# Altium footprint library Mypcb.PcbLib: 144 footprints (part 5 of 9)
Each footprint in its own frame and in the unit in brackets; x right, y up, seen from the top. Pads: shape width x height; smd on the part's side, far side on the other; paste and mask are expansions set on the pad; w line width, h text height; cw(c..) or ccw(c..) is an arc to the next point about the centre after c.
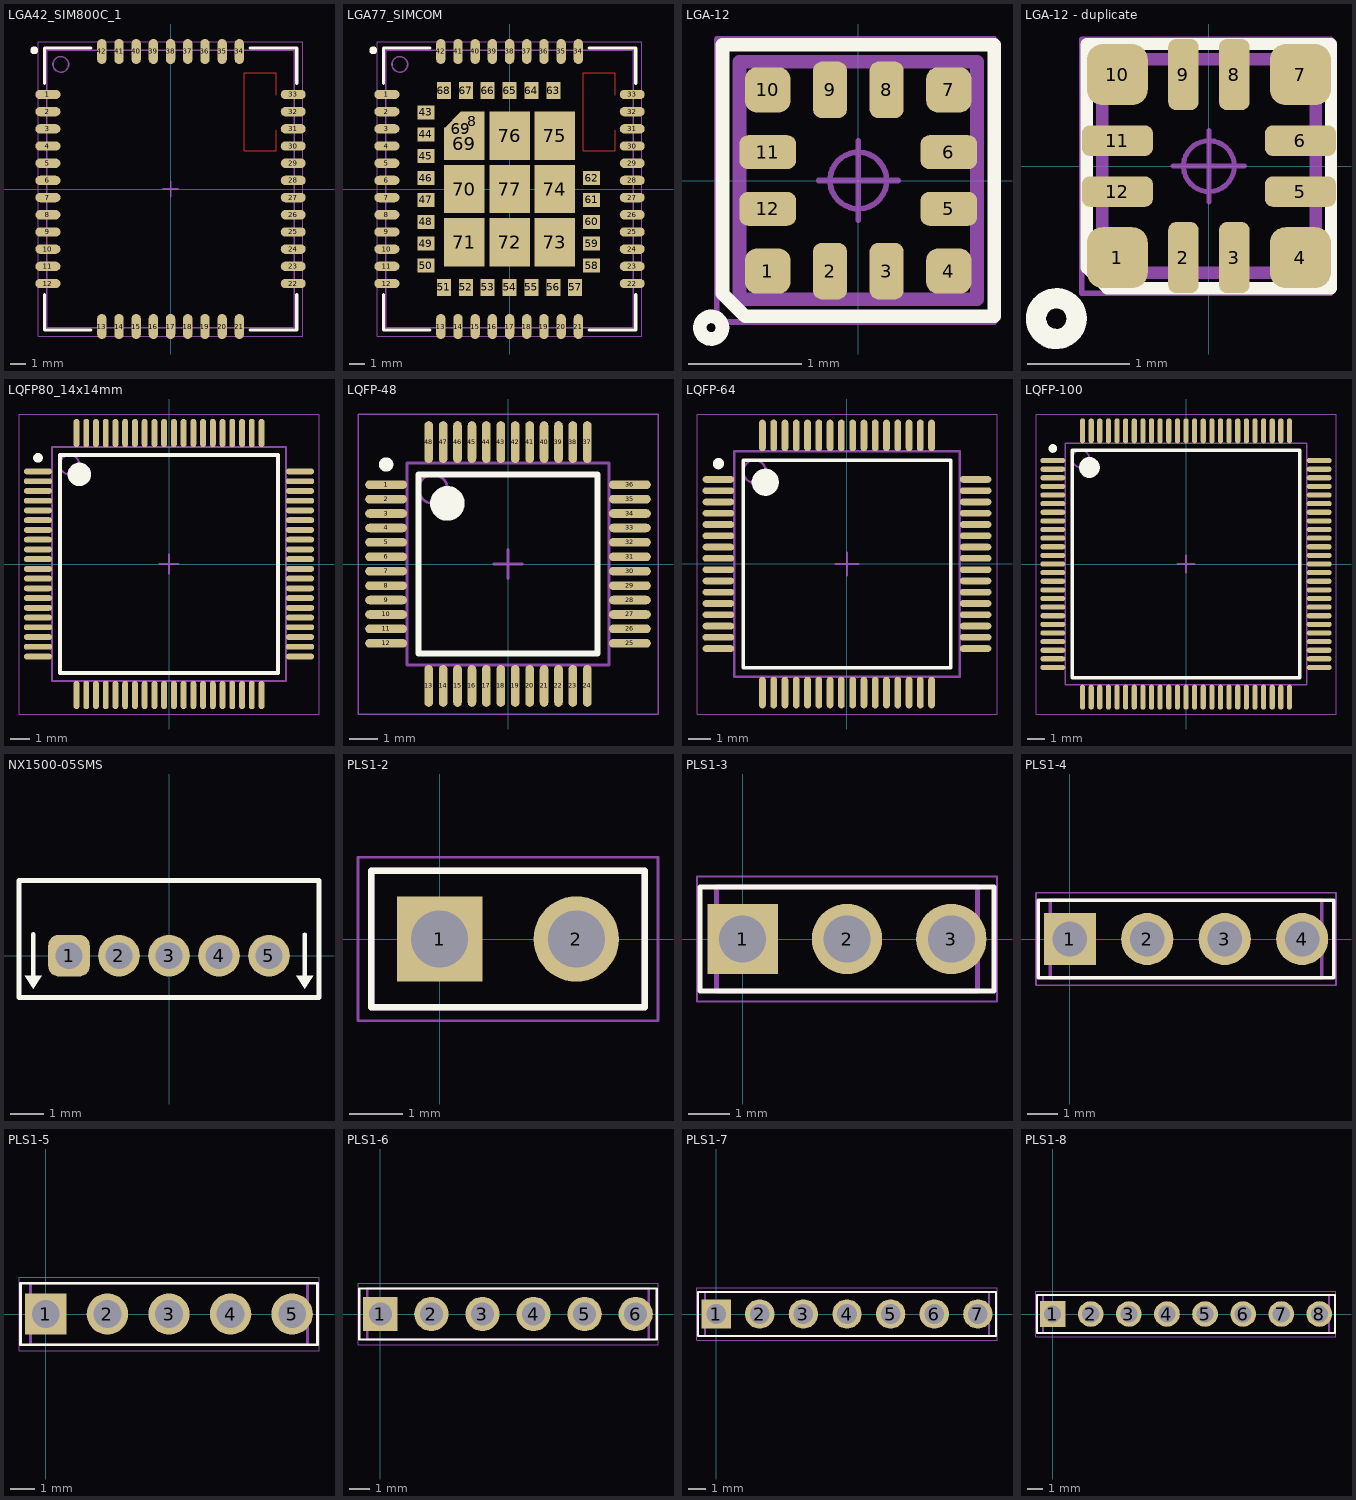
[diagram p4: the footprints below, top view; thin cyan lines are the x and y axes]

## LGA42_SIM800C_1 [mm] "SIM800C module"
height 2.5
pads (42):
  oval 1.6x0.6 smd: 1(-7.85,6.05) 2(-7.85,4.95) 3(-7.85,3.85) 4(-7.85,2.75) 5(-7.85,1.65) 6(-7.85,0.55) 7(-7.85,-0.55) 8(-7.85,-1.65) 9(-7.85,-2.75) 10(-7.85,-3.85) 11(-7.85,-4.95) 12(-7.85,-6.05) 22(7.85,-6.05) 23(7.85,-4.95) 24(7.85,-3.85) 25(7.85,-2.75) 26(7.85,-1.65) 27(7.85,-0.55) 28(7.85,0.55) 29(7.85,1.65) 30(7.85,2.75) 31(7.85,3.85) 32(7.85,4.95) 33(7.85,6.05)
  oval 0.6x1.6 smd: 13(-4.4,-8.8) 14(-3.3,-8.8) 15(-2.2,-8.8) 16(-1.1,-8.8) 17(0,-8.8) 18(1.1,-8.8) 19(2.2,-8.8) 20(3.3,-8.8) 21(4.4,-8.8) 34(4.4,8.8) 35(3.3,8.8) 36(2.2,8.8) 37(1.1,8.8) 38(0,8.8) 39(-1.1,8.8) 40(-2.2,8.8) 41(-3.3,8.8) 42(-4.4,8.8)
Top Layer:
  lines w0.05: 6.75,3.75 6.75,2.45 4.7,2.45 4.7,7.45 6.75,7.45 6.75,6
Top Overlay:
  circle w0.25: c-8.725,8.875 r0.125
  lines w0.2: -8.075,-6.75 -8.075,-9.025 -5.1,-9.025 ; -8.075,6.75 -8.075,9.025 -5.1,9.025 ; 5.1,-9.025 8.075,-9.025 8.075,-6.75 ; 5.1,9.025 8.075,9.025 8.075,6.75
Mechanical 13:
  circle w0.1: c-7.025,7.975 r0.5
  lines w0.1: -7.925,-8.875 7.925,-8.875 7.925,8.875 -7.925,8.875 -7.925,-8.875
Mechanical 15:
  lines w0.05: -8.475,-9.425 8.475,-9.425 8.475,9.425 -8.475,9.425 -8.475,-9.425
  lines w0.1: -0.5,0 0.5,0 ; 0,-0.5 0,0.5
3D body: height 2.5, standoff 0.01, extent -7.925,-8.875 7.925,8.875

## LGA77_SIMCOM [mm] "SIM868 module"
height 2.5
pads (79):
  oval 1.6x0.6 smd: 1(-7.85,6.05) 2(-7.85,4.95) 3(-7.85,3.85) 4(-7.85,2.75) 5(-7.85,1.65) 6(-7.85,0.55) 7(-7.85,-0.55) 8(-7.85,-1.65) 9(-7.85,-2.75) 10(-7.85,-3.85) 11(-7.85,-4.95) 12(-7.85,-6.05) 22(7.85,-6.05) 23(7.85,-4.95) 24(7.85,-3.85) 25(7.85,-2.75) 26(7.85,-1.65) 27(7.85,-0.55) 28(7.85,0.55) 29(7.85,1.65) 30(7.85,2.75) 31(7.85,3.85) 32(7.85,4.95) 33(7.85,6.05)
  rect 1.55x1.2 smd: 8(-2.375,4.35)
  oval 0.6x1.6 smd: 13(-4.4,-8.8) 14(-3.3,-8.8) 15(-2.2,-8.8) 16(-1.1,-8.8) 17(0,-8.8) 18(1.1,-8.8) 19(2.2,-8.8) 20(3.3,-8.8) 21(4.4,-8.8) 34(4.4,8.8) 35(3.3,8.8) 36(2.2,8.8) 37(1.1,8.8) 38(0,8.8) 39(-1.1,8.8) 40(-2.2,8.8) 41(-3.3,8.8) 42(-4.4,8.8)
  rect 1.1x0.9 smd: 43(-5.35,4.9) 44(-5.35,3.5) 45(-5.35,2.1) 46(-5.35,0.7) 47(-5.35,-0.7) 48(-5.35,-2.1) 49(-5.35,-3.5) 50(-5.35,-4.9) 58(5.25,-4.9) 59(5.25,-3.5) 60(5.25,-2.1) 61(5.25,-0.7) 62(5.25,0.7)
  rect 0.9x1.1 smd: 51(-4.2,-6.3) 52(-2.8,-6.3) 53(-1.4,-6.3) 54(0,-6.3) 55(1.4,-6.3) 56(2.8,-6.3) 57(4.2,-6.3) 63(2.8,6.3) 64(1.4,6.3) 65(0,6.3) 66(-1.4,6.3) 67(-2.8,6.3) 68(-4.2,6.3)
  rect 1.55x1.55 smd rot 45: 69(-3.12,3.87)
  rect 2.6x2.07 smd: 69(-2.9,2.885)
  rect 2.6x3.1 smd: 70(-2.9,0) 71(-2.9,-3.4) 72(0,-3.4) 73(2.9,-3.4) 74(2.9,0) 75(2.9,3.4) 76(0,3.4) 77(0,0)
Top Layer:
  lines w0.05: 6.75,3.75 6.75,2.45 4.7,2.45 4.7,7.45 6.75,7.45 6.75,6
Top Overlay:
  circle w0.25: c-8.725,8.875 r0.125
  lines w0.2: -8.075,-6.75 -8.075,-9.025 -5.1,-9.025 ; -8.075,6.75 -8.075,9.025 -5.1,9.025 ; 5.1,-9.025 8.075,-9.025 8.075,-6.75 ; 5.1,9.025 8.075,9.025 8.075,6.75
Mechanical 13:
  circle w0.1: c-7.025,7.975 r0.5
  lines w0.1: -7.925,-8.875 -7.925,8.875 7.925,8.875 7.925,-8.875 -7.925,-8.875
Mechanical 15:
  lines w0.05: -8.475,-9.425 -8.475,9.425 8.475,9.425 8.475,-9.425 -8.475,-9.425
  lines w0.1: -0.5,0 0.5,0 ; 0,-0.5 0,0.5
3D body: height 2.5, standoff 0.01, extent -7.6,-8.875 8.25,8.875

## LGA-12 [mm] "2x2 mm accelerometer"
pads (12):
  rrect51% 0.4x0.4 smd: 1(-0.8,-0.8) 4(0.8,-0.8) 7(0.8,0.8) 10(-0.8,0.8)
  rrect51% 0.3x0.5 smd: 2(-0.25,-0.8) 3(0.25,-0.8) 8(0.25,0.8) 9(-0.25,0.8)
  rrect51% 0.5x0.3 smd: 5(0.8,-0.25) 6(0.8,0.25) 11(-0.8,0.25) 12(-0.8,-0.25)
Top Overlay:
  circle w0.12: c-1.3,-1.3 r0.1
  lines w0.12: -1.2,-1 -1.2,1.2 1.2,1.2 1.2,-1.2 -1,-1.2 -1.2,-1
Mechanical 11:
  lines w0.12: -1.05,-1.05 -1.05,1.05 1.05,1.05 1.05,-1.05 -1.05,-1.05
Mechanical 12:
  lines w0.025: -1,-1 -1,1 1,1 1,-1 -1,-1 ; -0.9,-0.375 -0.75,-0.375 ccw(c-0.75,-0.25) -0.75,-0.125 -0.9,-0.125 -0.9,-0.375 ; -0.9,0.125 -0.75,0.125 ccw(c-0.75,0.25) -0.75,0.375 -0.9,0.375 -0.9,0.125 ; -0.875,-0.9 -0.875,-0.75 cw(c-0.75,-0.75) -0.625,-0.75 -0.625,-0.9 -0.875,-0.9 ; -0.875,0.75 ccw(c-0.75,0.75) -0.625,0.75 -0.625,0.9 -0.875,0.9 -0.875,0.75 ; -0.375,-0.9 -0.375,-0.75 cw(c-0.25,-0.75) -0.125,-0.75 -0.125,-0.9 -0.375,-0.9 ; -0.375,0.75 ccw(c-0.25,0.75) -0.125,0.75 -0.125,0.9 -0.375,0.9 -0.375,0.75 ; 0.125,-0.9 0.125,-0.75 cw(c0.25,-0.75) 0.375,-0.75 0.375,-0.9 0.125,-0.9 ; 0.125,0.75 ccw(c0.25,0.75) 0.375,0.75 0.375,0.9 0.125,0.9 0.125,0.75 ; 0.625,-0.9 0.625,-0.75 cw(c0.75,-0.75) 0.875,-0.75 0.875,-0.9 0.625,-0.9 ; 0.625,0.75 ccw(c0.75,0.75) 0.875,0.75 0.875,0.9 0.625,0.9 0.625,0.75 ; 0.75,-0.375 cw(c0.75,-0.25) 0.75,-0.125 0.9,-0.125 0.9,-0.375 0.75,-0.375 ; 0.75,0.125 cw(c0.75,0.25) 0.75,0.375 0.9,0.375 0.9,0.125 0.75,0.125
Mechanical 15:
  circle w0.05: c0,0 r0.25
  lines w0.05: -0.35,0 0.35,0 ; 0,-0.35 0,0.35 ; -1.25,-1.25 -1.25,1.25 1.2,1.25 1.2,-1.25 -1.25,-1.25
3D body "PQFN12P50_200X200X70L27X25.STEP": height 0.7, standoff 0, extent -1,-1 1,1

## LGA-12 - duplicate [mm] "2x2 mm accelerometer"
pads (12):
  rrect51% 0.6x0.6 smd: 1(-0.9,-0.9) 4(0.9,-0.9) 7(0.9,0.9) 10(-0.9,0.9)
  rrect51% 0.3x0.7 smd: 2(-0.25,-0.9) 3(0.25,-0.9) 8(0.25,0.9) 9(-0.25,0.9)
  rrect51% 0.7x0.3 smd: 5(0.9,-0.25) 6(0.9,0.25) 11(-0.9,0.25) 12(-0.9,-0.25)
Top Overlay:
  circle w0.2: c-1.5,-1.5 r0.2
  lines w0.12: -1.2,-1 -1.2,1.2 1.2,1.2 1.2,-1.2 -1,-1.2 -1.2,-1
Mechanical 11:
  lines w0.12: -1.05,-1.05 -1.05,1.05 1.05,1.05 1.05,-1.05 -1.05,-1.05
Mechanical 12:
  lines w0.025: -1,-1 -1,1 1,1 1,-1 -1,-1 ; -0.9,-0.375 -0.75,-0.375 ccw(c-0.75,-0.25) -0.75,-0.125 -0.9,-0.125 -0.9,-0.375 ; -0.9,0.125 -0.75,0.125 ccw(c-0.75,0.25) -0.75,0.375 -0.9,0.375 -0.9,0.125 ; -0.875,-0.9 -0.875,-0.75 cw(c-0.75,-0.75) -0.625,-0.75 -0.625,-0.9 -0.875,-0.9 ; -0.875,0.75 ccw(c-0.75,0.75) -0.625,0.75 -0.625,0.9 -0.875,0.9 -0.875,0.75 ; -0.375,-0.9 -0.375,-0.75 cw(c-0.25,-0.75) -0.125,-0.75 -0.125,-0.9 -0.375,-0.9 ; -0.375,0.75 ccw(c-0.25,0.75) -0.125,0.75 -0.125,0.9 -0.375,0.9 -0.375,0.75 ; 0.125,-0.9 0.125,-0.75 cw(c0.25,-0.75) 0.375,-0.75 0.375,-0.9 0.125,-0.9 ; 0.125,0.75 ccw(c0.25,0.75) 0.375,0.75 0.375,0.9 0.125,0.9 0.125,0.75 ; 0.625,-0.9 0.625,-0.75 cw(c0.75,-0.75) 0.875,-0.75 0.875,-0.9 0.625,-0.9 ; 0.625,0.75 ccw(c0.75,0.75) 0.875,0.75 0.875,0.9 0.625,0.9 0.625,0.75 ; 0.75,-0.375 cw(c0.75,-0.25) 0.75,-0.125 0.9,-0.125 0.9,-0.375 0.75,-0.375 ; 0.75,0.125 cw(c0.75,0.25) 0.75,0.375 0.9,0.375 0.9,0.125 0.75,0.125
Mechanical 15:
  circle w0.05: c0,0 r0.25
  lines w0.05: -0.35,0 0.35,0 ; 0,-0.35 0,0.35 ; -1.25,-1.25 -1.25,1.25 1.2,1.25 1.2,-1.25 -1.25,-1.25
3D body "PQFN12P50_200X200X70L27X25.STEP": height 0.7, standoff 0, extent -1,-1 1,1

## LQFP80_14x14mm [mm] "TSQFP, 80-Leads, Body 12,00x12,00mm, Pitch 0,50mm, IPC Medium Density"
height 1.6
pads (80):
  oval 1.45x0.3 smd: 1(-6.725,4.75) 2(-6.725,4.25) 3(-6.725,3.75) 4(-6.725,3.25) 5(-6.725,2.75) 6(-6.725,2.25) 7(-6.725,1.75) 8(-6.725,1.25) 9(-6.725,0.75) 10(-6.725,0.25) 11(-6.725,-0.25) 12(-6.725,-0.75) 13(-6.725,-1.25) 14(-6.725,-1.75) 15(-6.725,-2.25) 16(-6.725,-2.75) 17(-6.725,-3.25) 18(-6.725,-3.75) 19(-6.725,-4.25) 20(-6.725,-4.75) 41(6.725,-4.75) 42(6.725,-4.25) 43(6.725,-3.75) 44(6.725,-3.25) 45(6.725,-2.75) 46(6.725,-2.25) 47(6.725,-1.75) 48(6.725,-1.25) 49(6.725,-0.75) 50(6.725,-0.25) 51(6.725,0.25) 52(6.725,0.75) 53(6.725,1.25) 54(6.725,1.75) 55(6.725,2.25) 56(6.725,2.75) 57(6.725,3.25) 58(6.725,3.75) 59(6.725,4.25) 60(6.725,4.75)
  oval 0.3x1.45 smd: 21(-4.75,-6.725) 22(-4.25,-6.725) 23(-3.75,-6.725) 24(-3.25,-6.725) 25(-2.75,-6.725) 26(-2.25,-6.725) 27(-1.75,-6.725) 28(-1.25,-6.725) 29(-0.75,-6.725) 30(-0.25,-6.725) 31(0.25,-6.725) 32(0.75,-6.725) 33(1.25,-6.725) 34(1.75,-6.725) 35(2.25,-6.725) 36(2.75,-6.725) 37(3.25,-6.725) 38(3.75,-6.725) 39(4.25,-6.725) 40(4.75,-6.725) 61(4.75,6.725) 62(4.25,6.725) 63(3.75,6.725) 64(3.25,6.725) 65(2.75,6.725) 66(2.25,6.725) 67(1.75,6.725) 68(1.25,6.725) 69(0.75,6.725) 70(0.25,6.725) 71(-0.25,6.725) 72(-0.75,6.725) 73(-1.25,6.725) 74(-1.75,6.725) 75(-2.25,6.725) 76(-2.75,6.725) 77(-3.25,6.725) 78(-3.75,6.725) 79(-4.25,6.725) 80(-4.75,6.725)
Top Overlay:
  circle w0.6: c-4.6,4.6 r0.3
  circle w0.25: c-6.725,5.45 r0.125
  lines w0.2: -5.6,-5.6 5.6,-5.6 5.6,5.6 -5.6,5.6 -5.6,-5.6
Mechanical 13:
  circle w0.1: c-5.1,5.1 r0.5
  lines w0.1: -6,-6 6,-6 6,6 -6,6 -6,-6
Mechanical 15:
  lines w0.05: -7.7,-7.7 7.7,-7.7 7.7,7.7 -7.7,7.7 -7.7,-7.7
  lines w0.1: -0.5,0 0.5,0 ; 0,-0.5 0,0.5
3D body: height 1.6, standoff 0.05, extent -6,-6 6,6

## LQFP-48 [mm] "TSQFP, 48-Leads, Body 7,00x7,00mm, Pitch 0,50mm, IPC Medium Density"
height 1.6
pads (48):
  oval 1.45x0.3 smd: 1(-4.225,2.75) 2(-4.225,2.25) 3(-4.225,1.75) 4(-4.225,1.25) 5(-4.225,0.75) 6(-4.225,0.25) 7(-4.225,-0.25) 8(-4.225,-0.75) 9(-4.225,-1.25) 10(-4.225,-1.75) 11(-4.225,-2.25) 12(-4.225,-2.75) 25(4.225,-2.75) 26(4.225,-2.25) 27(4.225,-1.75) 28(4.225,-1.25) 29(4.225,-0.75) 30(4.225,-0.25) 31(4.225,0.25) 32(4.225,0.75) 33(4.225,1.25) 34(4.225,1.75) 35(4.225,2.25) 36(4.225,2.75)
  oval 0.3x1.45 smd: 13(-2.75,-4.225) 14(-2.25,-4.225) 15(-1.75,-4.225) 16(-1.25,-4.225) 17(-0.75,-4.225) 18(-0.25,-4.225) 19(0.25,-4.225) 20(0.75,-4.225) 21(1.25,-4.225) 22(1.75,-4.225) 23(2.25,-4.225) 24(2.75,-4.225) 37(2.75,4.225) 38(2.25,4.225) 39(1.75,4.225) 40(1.25,4.225) 41(0.75,4.225) 42(0.25,4.225) 43(-0.25,4.225) 44(-0.75,4.225) 45(-1.25,4.225) 46(-1.75,4.225) 47(-2.25,4.225) 48(-2.75,4.225)
Top Overlay:
  circle w0.6: c-2.1,2.1 r0.3
  circle w0.25: c-4.225,3.45 r0.125
  lines w0.2: -3.1,-3.1 3.1,-3.1 3.1,3.1 -3.1,3.1 -3.1,-3.1
Mechanical 13:
  circle w0.1: c-2.6,2.6 r0.5
  lines w0.1: -3.5,-3.5 3.5,-3.5 3.5,3.5 -3.5,3.5 -3.5,-3.5
Mechanical 15:
  lines w0.05: -5.2,-5.2 5.2,-5.2 5.2,5.2 -5.2,5.2 -5.2,-5.2
  lines w0.1: -0.5,0 0.5,0 ; 0,-0.5 0,0.5
3D body: height 1.6, standoff 0.05, extent -3.5,-3.5 3.5,3.5

## LQFP-64 [mm] "TSQFP, 64-Leads, Body 10,00x10,00mm, Pitch 0,50mm, IPC Medium Density"
height 1.2
pads (64):
  oval 1.4x0.3 smd: 1(-5.7,3.75) 2(-5.7,3.25) 3(-5.7,2.75) 4(-5.7,2.25) 5(-5.7,1.75) 6(-5.7,1.25) 7(-5.7,0.75) 8(-5.7,0.25) 9(-5.7,-0.25) 10(-5.7,-0.75) 11(-5.7,-1.25) 12(-5.7,-1.75) 13(-5.7,-2.25) 14(-5.7,-2.75) 15(-5.7,-3.25) 16(-5.7,-3.75) 33(5.7,-3.75) 34(5.7,-3.25) 35(5.7,-2.75) 36(5.7,-2.25) 37(5.7,-1.75) 38(5.7,-1.25) 39(5.7,-0.75) 40(5.7,-0.25) 41(5.7,0.25) 42(5.7,0.75) 43(5.7,1.25) 44(5.7,1.75) 45(5.7,2.25) 46(5.7,2.75) 47(5.7,3.25) 48(5.7,3.75)
  oval 0.3x1.4 smd: 17(-3.75,-5.7) 18(-3.25,-5.7) 19(-2.75,-5.7) 20(-2.25,-5.7) 21(-1.75,-5.7) 22(-1.25,-5.7) 23(-0.75,-5.7) 24(-0.25,-5.7) 25(0.25,-5.7) 26(0.75,-5.7) 27(1.25,-5.7) 28(1.75,-5.7) 29(2.25,-5.7) 30(2.75,-5.7) 31(3.25,-5.7) 32(3.75,-5.7) 49(3.75,5.7) 50(3.25,5.7) 51(2.75,5.7) 52(2.25,5.7) 53(1.75,5.7) 54(1.25,5.7) 55(0.75,5.7) 56(0.25,5.7) 57(-0.25,5.7) 58(-0.75,5.7) 59(-1.25,5.7) 60(-1.75,5.7) 61(-2.25,5.7) 62(-2.75,5.7) 63(-3.25,5.7) 64(-3.75,5.7)
Top Overlay:
  circle w0.6: c-3.625,3.625 r0.3
  circle w0.25: c-5.7,4.45 r0.125
  lines w0.15: -4.6,-4.6 4.6,-4.6 4.6,4.6 -4.6,4.6 -4.6,-4.6
Mechanical 13:
  circle w0.1: c-4.1,4.1 r0.5
  lines w0.1: -5,-5 5,-5 5,5 -5,5 -5,-5
Mechanical 15:
  lines w0.05: -6.65,-6.65 6.65,-6.65 6.65,6.65 -6.65,6.65 -6.65,-6.65
  lines w0.1: -0.5,0 0.5,0 ; 0,-0.5 0,0.5
3D body: height 1.2, standoff 0.15, extent -5,-5 5,5

## LQFP-100 [mm] "TSQFP, 100-Leads, Body 14,00x14,00mm, Pitch 0,50mm, IPC Medium Density"
height 1.6
pads (100):
  oval 1.45x0.3 smd: 1(-7.725,6) 2(-7.725,5.5) 3(-7.725,5) 4(-7.725,4.5) 5(-7.725,4) 6(-7.725,3.5) 7(-7.725,3) 8(-7.725,2.5) 9(-7.725,2) 10(-7.725,1.5) 11(-7.725,1) 12(-7.725,0.5) 13(-7.725,0) 14(-7.725,-0.5) 15(-7.725,-1) 16(-7.725,-1.5) 17(-7.725,-2) 18(-7.725,-2.5) 19(-7.725,-3) 20(-7.725,-3.5) 21(-7.725,-4) 22(-7.725,-4.5) 23(-7.725,-5) 24(-7.725,-5.5) 25(-7.725,-6) 51(7.725,-6) 52(7.725,-5.5) 53(7.725,-5) 54(7.725,-4.5) 55(7.725,-4) 56(7.725,-3.5) 57(7.725,-3) 58(7.725,-2.5) 59(7.725,-2) 60(7.725,-1.5) 61(7.725,-1) 62(7.725,-0.5) 63(7.725,0) 64(7.725,0.5) 65(7.725,1) 66(7.725,1.5) 67(7.725,2) 68(7.725,2.5) 69(7.725,3) 70(7.725,3.5) 71(7.725,4) 72(7.725,4.5) 73(7.725,5) 74(7.725,5.5) 75(7.725,6)
  oval 0.3x1.45 smd: 26(-6,-7.725) 27(-5.5,-7.725) 28(-5,-7.725) 29(-4.5,-7.725) 30(-4,-7.725) 31(-3.5,-7.725) 32(-3,-7.725) 33(-2.5,-7.725) 34(-2,-7.725) 35(-1.5,-7.725) 36(-1,-7.725) 37(-0.5,-7.725) 38(0,-7.725) 39(0.5,-7.725) 40(1,-7.725) 41(1.5,-7.725) 42(2,-7.725) 43(2.5,-7.725) 44(3,-7.725) 45(3.5,-7.725) 46(4,-7.725) 47(4.5,-7.725) 48(5,-7.725) 49(5.5,-7.725) 50(6,-7.725) 76(6,7.725) 77(5.5,7.725) 78(5,7.725) 79(4.5,7.725) 80(4,7.725) 81(3.5,7.725) 82(3,7.725) 83(2.5,7.725) 84(2,7.725) 85(1.5,7.725) 86(1,7.725) 87(0.5,7.725) 88(0,7.725) 89(-0.5,7.725) 90(-1,7.725) 91(-1.5,7.725) 92(-2,7.725) 93(-2.5,7.725) 94(-3,7.725) 95(-3.5,7.725) 96(-4,7.725) 97(-4.5,7.725) 98(-5,7.725) 99(-5.5,7.725) 100(-6,7.725)
Top Overlay:
  circle w0.25: c-7.725,6.7 r0.125
  circle w0.6: c-5.6,5.6 r0.3
  lines w0.2: -6.6,-6.6 -6.6,6.6 6.6,6.6 6.6,-6.6 -6.6,-6.6
Mechanical 13:
  circle w0.1: c-6.1,6.1 r0.5
  lines w0.1: -7,-7 -7,7 7,7 7,-7 -7,-7
Mechanical 15:
  lines w0.05: -8.7,-8.7 -8.7,8.7 8.7,8.7 8.7,-8.7 -8.7,-8.7
  lines w0.1: -0.5,0 0.5,0 ; 0,-0.5 0,0.5
3D body: height 1.6, standoff 0.05, extent -7,-7 7,7

## NX1500-05SMS [mm] "connector, 1/5 mm pitch, male, 5 pins"
pads (5):
  rrect50% 1.25x1.25 hole 0.8: 1(-3,0)
  round 1.25 hole 0.8: 2(-1.5,0) 3(0,0) 4(1.5,0) 5(3,0)
Top Overlay:
  region: 4.327,-0.609 3.819,-0.61 4.073,-0.99
  region: -3.819,-0.61 -4.327,-0.609 -4.073,-0.99
  lines w0.127: -4.075,-0.625 -4.075,0.645 ; 4.073,-0.634 4.073,0.635
  lines w0.15: -4.5,-1.25 4.5,-1.25 4.5,2.25 -4.5,2.25 -4.5,-1.25
Mechanical 1:
  lines w0.1: -4.5,-1.25 4.5,-1.25 4.5,2.25 -4.5,2.25 -4.5,-1.25
3D body: height 4.5, standoff 0, extent 4.25,-1.25 4.5,2.25
3D body: height 0.25, standoff 0, extent -4.25,-1 4.25,2
3D body: height 4.5, standoff 0, extent -4.5,2 4.5,2.25
3D body: height 3.5, standoff -2.7, extent 2.752,-0.249 3.25,0.25
3D body: height 4.5, standoff 0, extent -4.5,-1.25 4.5,-1
3D body: height 3.5, standoff -2.7, extent 1.252,-0.249 1.75,0.25
3D body: height 3.5, standoff -2.7, extent -0.248,-0.249 0.25,0.25
3D body: height 4.5, standoff 0, extent -4.5,2.2 4.5,2.3
3D body: height 3.5, standoff -2.7, extent -1.748,-0.249 -1.25,0.25
3D body: height 3.5, standoff -2.7, extent -3.248,-0.249 -2.75,0.25
3D body: height 4.5, standoff 0, extent -4.5,-1.25 -4.25,2.25

## PLS1-2 [mm] "Header, Vertical, 2.54 mm pitch; 0.64 mm lead width, 2 pins, 1 row, 2 pins per row, 5.08 mm L X 2.54 mm W X 8.54 mm H body"
height 8.54
pads (2):
  rect 1.59x1.59 hole 1.06 paste-1.59: 1(0,0)
  round 1.59 hole 1.06 paste-1.59: 2(2.54,0)
Top Overlay:
  lines w0.12: -1.27,-1.27 -1.27,1.27 3.81,1.27 3.81,-1.27 -1.27,-1.27
Mechanical 11:
  lines w0.12: -1.27,-1.27 -1.27,1.27 3.81,1.27 3.81,-1.27 -1.27,-1.27
Mechanical 12:
  lines w0.025: -1.27,-1.27 -1.27,1.27 3.81,1.27 3.81,-1.27 -1.27,-1.27 ; -0.32,-0.32 -0.32,0.32 0.32,0.32 0.32,-0.32 -0.32,-0.32 ; 2.22,-0.32 2.22,0.32 2.86,0.32 2.86,-0.32 2.22,-0.32
Mechanical 15:
  circle w0.05: c0,0 r0.25
  lines w0.05: -0.35,0 0.35,0 ; 0,-0.35 0,0.35 ; -1.52,-1.52 -1.52,1.52 4.06,1.52 4.06,-1.52 -1.52,-1.52
3D body "HDRV2W64P254_2X1_508X254H854.STEP": height 8.54, standoff -2.3, extent -1.27,-1.27 3.81,1.27

## PLS1-3 [mm] "Header, Vertical, 2.54 mm pitch; 0.70 mm lead width, 3 pins, 1 row, 3 pins per row, 6.35 mm L X 2.54 mm W X 7.54 mm H body"
height 7.54
pads (3):
  rect 1.71x1.71 hole 1.14 paste-1.71: 1(0,0)
  round 1.71 hole 1.14 paste-1.71: 2(2.54,0) 3(5.08,0)
Top Overlay:
  lines w0.12: -1.04,-1.27 6.12,-1.27 6.12,1.27 -1.04,1.27 -1.04,-1.27
Mechanical 11:
  lines w0.12: -0.64,-1.27 5.72,-1.27 5.72,1.27 -0.64,1.27 -0.64,-1.27
Mechanical 12:
  lines w0.025: -0.635,-1.27 5.715,-1.27 5.715,1.27 -0.635,1.27 -0.635,-1.27 ; -0.35,-0.35 0.35,-0.35 0.35,0.35 -0.35,0.35 -0.35,-0.35 ; 2.19,-0.35 2.89,-0.35 2.89,0.35 2.19,0.35 2.19,-0.35 ; 4.73,-0.35 5.43,-0.35 5.43,0.35 4.73,0.35 4.73,-0.35
Mechanical 15:
  circle w0.05: c0,0 r0.25
  lines w0.05: -0.35,0 0.35,0 ; 0,-0.35 0,0.35 ; -1.11,-1.52 6.19,-1.52 6.19,1.52 -1.11,1.52 -1.11,-1.52
3D body "HDRV3W70P254_3X1_635X254H754.STEP": height 7.54, standoff -2.3, extent -0.635,-1.27 5.715,1.27

## PLS1-4 [mm] "Header, Vertical, 2.54 mm pitch; 0.70 mm lead width, 4 pins, 1 row, 4 pins per row, 8.89 mm L X 2.54 mm W X 7.54 mm H body"
height 7.54
pads (4):
  rect 1.71x1.71 hole 1.14 paste-1.71: 1(0,0)
  round 1.71 hole 1.14 paste-1.71: 2(2.54,0) 3(5.08,0) 4(7.62,0)
Top Overlay:
  lines w0.12: -1.04,-1.27 -1.04,1.27 8.66,1.27 8.66,-1.27 -1.04,-1.27
Mechanical 11:
  lines w0.12: -0.64,-1.27 -0.64,1.27 8.26,1.27 8.26,-1.27 -0.64,-1.27
Mechanical 12:
  lines w0.025: -0.635,-1.27 -0.635,1.27 8.255,1.27 8.255,-1.27 -0.635,-1.27 ; -0.35,-0.35 -0.35,0.35 0.35,0.35 0.35,-0.35 -0.35,-0.35 ; 2.19,-0.35 2.19,0.35 2.89,0.35 2.89,-0.35 2.19,-0.35 ; 4.73,-0.35 4.73,0.35 5.43,0.35 5.43,-0.35 4.73,-0.35 ; 7.27,-0.35 7.27,0.35 7.97,0.35 7.97,-0.35 7.27,-0.35
Mechanical 15:
  circle w0.05: c0,0 r0.25
  lines w0.05: -0.35,0 0.35,0 ; 0,-0.35 0,0.35 ; -1.11,-1.52 -1.11,1.52 8.73,1.52 8.73,-1.52 -1.11,-1.52
3D body "HDRV4W70P254_4X1_889X254H754.STEP": height 7.54, standoff -2.3, extent -0.635,-1.27 8.255,1.27

## PLS1-5 [mm] "Header, Vertical, 2.54 mm pitch; 0.70 mm lead width, 5 pins, 1 row, 5 pins per row, 11.43 mm L X 2.54 mm W X 7.54 mm H body"
height 7.54
pads (5):
  rect 1.71x1.71 hole 1.14 paste-1.71: 1(0,0)
  round 1.71 hole 1.14 paste-1.71: 2(2.54,0) 3(5.08,0) 4(7.62,0) 5(10.16,0)
Top Overlay:
  lines w0.12: -1.04,-1.27 -1.04,1.27 11.2,1.27 11.2,-1.27 -1.04,-1.27
Mechanical 11:
  lines w0.12: -0.64,-1.27 -0.64,1.27 10.8,1.27 10.8,-1.27 -0.64,-1.27
Mechanical 12:
  lines w0.025: -0.635,-1.27 -0.635,1.27 10.795,1.27 10.795,-1.27 -0.635,-1.27 ; -0.35,-0.35 -0.35,0.35 0.35,0.35 0.35,-0.35 -0.35,-0.35 ; 2.19,-0.35 2.19,0.35 2.89,0.35 2.89,-0.35 2.19,-0.35 ; 4.73,-0.35 4.73,0.35 5.43,0.35 5.43,-0.35 4.73,-0.35 ; 7.27,-0.35 7.27,0.35 7.97,0.35 7.97,-0.35 7.27,-0.35 ; 9.81,-0.35 9.81,0.35 10.51,0.35 10.51,-0.35 9.81,-0.35
Mechanical 15:
  circle w0.05: c0,0 r0.25
  lines w0.05: -0.35,0 0.35,0 ; 0,-0.35 0,0.35 ; -1.11,-1.52 -1.11,1.52 11.27,1.52 11.27,-1.52 -1.11,-1.52
3D body "HDRV5W70P254_5X1_1143X254H754.STEP": height 7.54, standoff -2.3, extent -0.635,-1.27 10.795,1.27

## PLS1-6 [mm] "Header, Vertical, 2.54 mm pitch; 0.70 mm lead width, 6 pins, 1 row, 6 pins per row, 13.97 mm L X 2.54 mm W X 7.54 mm H body"
height 7.54
pads (6):
  rect 1.71x1.71 hole 1.14 paste-1.71: 1(0,0)
  round 1.71 hole 1.14 paste-1.71: 2(2.54,0) 3(5.08,0) 4(7.62,0) 5(10.16,0) 6(12.7,0)
Top Overlay:
  lines w0.12: -1.04,-1.27 13.74,-1.27 13.74,1.27 -1.04,1.27 -1.04,-1.27
Mechanical 11:
  lines w0.12: -0.64,-1.27 13.34,-1.27 13.34,1.27 -0.64,1.27 -0.64,-1.27
Mechanical 12:
  lines w0.025: -0.635,-1.27 13.335,-1.27 13.335,1.27 -0.635,1.27 -0.635,-1.27 ; -0.35,-0.35 0.35,-0.35 0.35,0.35 -0.35,0.35 -0.35,-0.35 ; 2.19,-0.35 2.89,-0.35 2.89,0.35 2.19,0.35 2.19,-0.35 ; 4.73,-0.35 5.43,-0.35 5.43,0.35 4.73,0.35 4.73,-0.35 ; 7.27,-0.35 7.97,-0.35 7.97,0.35 7.27,0.35 7.27,-0.35 ; 9.81,-0.35 10.51,-0.35 10.51,0.35 9.81,0.35 9.81,-0.35 ; 12.35,-0.35 13.05,-0.35 13.05,0.35 12.35,0.35 12.35,-0.35
Mechanical 15:
  circle w0.05: c0,0 r0.25
  lines w0.05: -0.35,0 0.35,0 ; 0,-0.35 0,0.35 ; -1.11,-1.52 13.81,-1.52 13.81,1.52 -1.11,1.52 -1.11,-1.52
3D body "HDRV6W70P254_6X1_1397X254H754.STEP": height 7.54, standoff -2.3, extent -0.635,-1.27 13.335,1.27

## PLS1-7 [mm] "Header, Vertical, 2.54 mm pitch; 0.70 mm lead width, 7 pins, 1 row, 7 pins per row, 16.51 mm L X 2.54 mm W X 7.54 mm H body"
height 7.54
pads (7):
  rect 1.71x1.71 hole 1.14 paste-1.71: 1(0,0)
  round 1.71 hole 1.14 paste-1.71: 2(2.54,0) 3(5.08,0) 4(7.62,0) 5(10.16,0) 6(12.7,0) 7(15.24,0)
Top Overlay:
  lines w0.12: -1.04,-1.27 16.28,-1.27 16.28,1.27 -1.04,1.27 -1.04,-1.27
Mechanical 11:
  lines w0.12: -0.64,-1.27 15.88,-1.27 15.88,1.27 -0.64,1.27 -0.64,-1.27
Mechanical 12:
  lines w0.025: -0.635,-1.27 15.875,-1.27 15.875,1.27 -0.635,1.27 -0.635,-1.27 ; -0.35,-0.35 0.35,-0.35 0.35,0.35 -0.35,0.35 -0.35,-0.35 ; 2.19,-0.35 2.89,-0.35 2.89,0.35 2.19,0.35 2.19,-0.35 ; 4.73,-0.35 5.43,-0.35 5.43,0.35 4.73,0.35 4.73,-0.35 ; 7.27,-0.35 7.97,-0.35 7.97,0.35 7.27,0.35 7.27,-0.35 ; 9.81,-0.35 10.51,-0.35 10.51,0.35 9.81,0.35 9.81,-0.35 ; 12.35,-0.35 13.05,-0.35 13.05,0.35 12.35,0.35 12.35,-0.35 ; 14.89,-0.35 15.59,-0.35 15.59,0.35 14.89,0.35 14.89,-0.35
Mechanical 15:
  circle w0.05: c0,0 r0.25
  lines w0.05: -0.35,0 0.35,0 ; 0,-0.35 0,0.35 ; -1.11,-1.52 16.35,-1.52 16.35,1.52 -1.11,1.52 -1.11,-1.52
3D body "HDRV7W70P254_7X1_1651X254H754.STEP": height 7.54, standoff -2.3, extent -0.635,-1.27 15.875,1.27

## PLS1-8 [mm] "Header, Vertical, 2.54 mm pitch; 0.70 mm lead width, 8 pins, 1 row, 8 pins per row, 19.05 mm L X 2.54 mm W X 7.54 mm H body"
height 7.54
pads (8):
  rect 1.71x1.71 hole 1.14 paste-1.71: 1(0,0)
  round 1.71 hole 1.14 paste-1.71: 2(2.54,0) 3(5.08,0) 4(7.62,0) 5(10.16,0) 6(12.7,0) 7(15.24,0) 8(17.78,0)
Top Overlay:
  lines w0.12: -1.04,-1.27 18.82,-1.27 18.82,1.27 -1.04,1.27 -1.04,-1.27
Mechanical 11:
  lines w0.12: -0.64,-1.27 18.42,-1.27 18.42,1.27 -0.64,1.27 -0.64,-1.27
Mechanical 12:
  lines w0.025: -0.635,-1.27 18.415,-1.27 18.415,1.27 -0.635,1.27 -0.635,-1.27 ; -0.35,-0.35 0.35,-0.35 0.35,0.35 -0.35,0.35 -0.35,-0.35 ; 2.19,-0.35 2.89,-0.35 2.89,0.35 2.19,0.35 2.19,-0.35 ; 4.73,-0.35 5.43,-0.35 5.43,0.35 4.73,0.35 4.73,-0.35 ; 7.27,-0.35 7.97,-0.35 7.97,0.35 7.27,0.35 7.27,-0.35 ; 9.81,-0.35 10.51,-0.35 10.51,0.35 9.81,0.35 9.81,-0.35 ; 12.35,-0.35 13.05,-0.35 13.05,0.35 12.35,0.35 12.35,-0.35 ; 14.89,-0.35 15.59,-0.35 15.59,0.35 14.89,0.35 14.89,-0.35 ; 17.43,-0.35 18.13,-0.35 18.13,0.35 17.43,0.35 17.43,-0.35
Mechanical 15:
  circle w0.05: c0,0 r0.25
  lines w0.05: -0.35,0 0.35,0 ; 0,-0.35 0,0.35 ; -1.11,-1.52 18.89,-1.52 18.89,1.52 -1.11,1.52 -1.11,-1.52
3D body "HDRV8W70P254_8X1_1905X254H754.STEP": height 7.54, standoff -2.3, extent -0.635,-1.27 18.415,1.27